# Altium schematic symbol library led.SchLib: 3 symbols
Pins are listed as number, name and electrical type; pins without a type are passive.

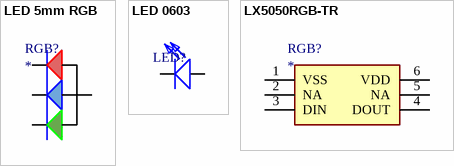
[diagram p0: symbols LED 5mm RGB to LX5050RGB-TR]

## LED 5mm RGB
designator RGB?
Anodo comun; Diam: 5mm; altura: 8.6mm; datasheet: https://www.mouser.es/datasheet/2/216/WP154A4SEJ3VBDZGC-CA-1145208.pdf
footprint LED RGB THT
pins: 1 R, 2 Anode, 3 B, 4 G

## LED 0603
designator LED?  (value not drawn)
footprint LED_0603 - YELLOW
footprint LED_0603 - WHITE
footprint LED_0603 - RED
footprint LED_0603 - GREEN
footprint LED_0603 - BLUE
pins: 1 K, 2 A

## LX5050RGB-TR
designator RGB?
datasheet: https://www.mouser.es/datasheet/2/244/Lumex_03_27_2020_SMD_LX5050RGB_TR-1894043.pdf*; ComponentLink1Description: mouser; ComponentLink1URL: https://www.mouser.es/ProductDetail/Lumex/SMD-LX5050RGB-TR?qs=GedFDFLaBXGgyFR6XtWXMw%3D%3D
footprint SMDLX5050RGBTR
pins: 1 VSS, 2 NA, 3 DIN, 4 DOUT, 5 NA, 6 VDD